# EAGLE library part 68800811722 (library WR-WTB)
WR-WTB 2.50 mm “J” Type Male Horizontal Shrouded Header Material Properties Insulator Material PA66 Insulator Flammability Rating UL94 V-0 Color White Contact Material Brass Contact Plating Tin Contact Type Stamped Certification UL Approval E323964 General Information Operating Temperature -25 °C up to +85 °C Compliance RoHS IR 3 A Working Voltage 250 V (AC) Withstanding Voltage 800 V (AC) Contact Resistance 20 mΩ RISO 1000 MΩ Pitch 2.5 mm Gender Male Type Horizontal Packaging Properties Packaging Bag Details see: www.we-online.com/en/components/products/WTB_2_50_J_TYPE_HORIZONTAL_MALE_SHROUDED_HEADER_6880XX11722 Updated by Ella 2025-03-06 2025 (C) Würth Elektronik
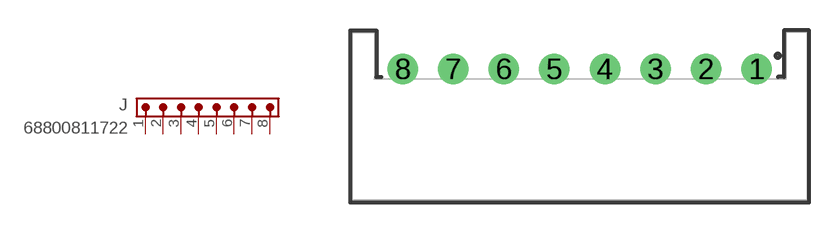
[diagram p47: symbol with the pads of 68800811722; footprint 68800811722]

Designator prefix J

## 68800811722 (CONTACT-RESISTANCE: 20mOhm; DATASHEET: https://www.we-online.com/redexpert/spec/68800811722?ae; GENDER: Male; IR: 3A; L: 22.5mm; MOUNT: THT; PACKAGING: Bag; PART-NUMBER: 68800811722; PCB-CABLE-PANEL: PCB; PINS: 8; PITCH: 2.5mm; TYPE: Horizontal; VALUE: 68800811722; WORKING-VOLTAGE: 250V(AC))  [68800811722]
1  1  pas
2  2  pas
3  3  pas
4  4  pas
5  5  pas
6  6  pas
7  7  pas
8  8  pas

## Footprint 68800811722 (pad centres in mm)
WR-WTB 2.50 mm “J” Type Male Horizontal Shrouded Header, 8 Pins
drill 1: 1 8.75,2.35; 2 6.25,2.35; 3 3.75,2.35; 4 1.25,2.35; 5 -1.25,2.35; 6 -3.75,2.35; 7 -6.25,2.35; 8 -8.75,2.35